# Altium schematic symbol library pinghengche.SCHLIB: 39 symbols
Pins are listed as number, name and electrical type; pins without a type are passive.

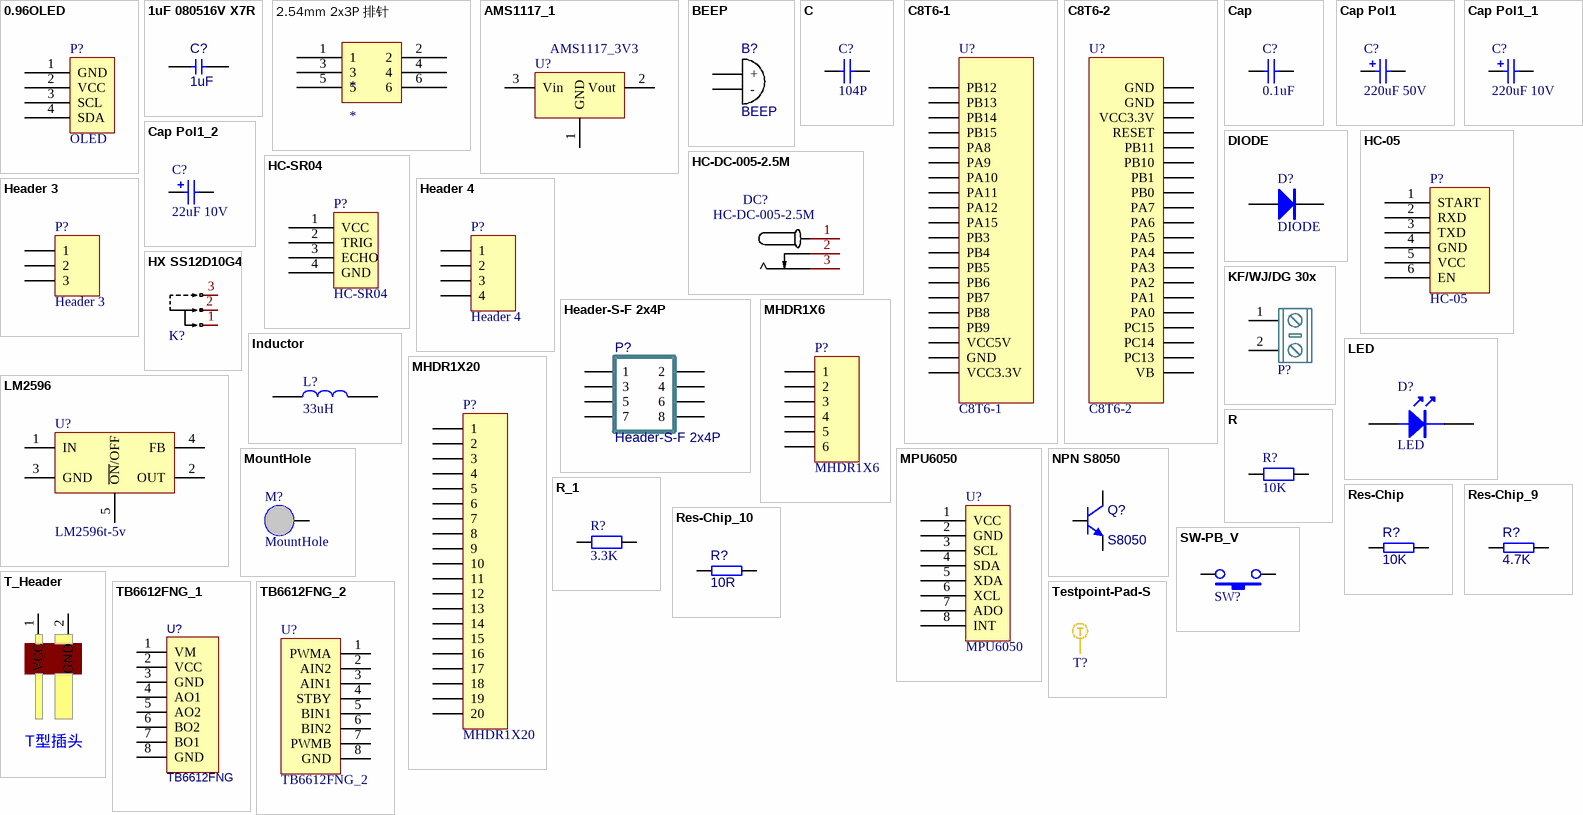
[diagram p0: symbols 0.96OLED to Testpoint-Pad-S]

## 0.96OLED
designator P?, comment OLED
0.96寸OLED屏，GND开头
footprint OLED4p (排母，4脚)
pins: 1 GND, 2 VCC, 3 SCL, 4 SDA

## 1uF 080516V X7R
designator C?  value 1uF
贴片电容0805; Revision: V1.0
footprint C0805
pins: 1, 2

## 2.54mm 2x3P 排针
designator *
footprint HDR-TH_6P-P2.54-V-M-R2-C3-S2.54
pins: 1, 2, 3, 4, 5, 6

## AMS1117_1
designator U?, comment AMS1117_3V3
3.3V电压转换器AMS1117
footprint SOT-223
pins: 1 GND, 2 Vout, 3 Vin

## BEEP
designator B?
蜂鸣器
footprint BEEP 9x5.5mm
footprint BEEP 9x5.5mm
pins: 1 +, 2 -

## C
designator C?, comment 104P
0.1uf 贴片电容/MLCC电容; BOM名称: 无极性贴片电容; 联系卖家，免费查找封装: 唯一出售店铺网址https://shop463601444.taobao.com
footprint CAPC1608[0603]S-L
pins: 1, 2

## C8T6-1
designator U?
stm32f103c8t6扩展接口
footprint HDR2.54-M-LI-20P (排母，20脚)
pins: 1 PB12, 2 PB13, 3 PB14, 4 PB15, 5 PA8, 6 PA9, 7 PA10, 8 PA11, 9 PA12, 10 PA15, 11 PB3, 12 PB4, 13 PB5, 14 PB6, 15 PB7, 16 PB8, 17 PB9, 18 VCC5V, 19 GND, 20 VCC3.3V

## C8T6-2
designator U?
stm32f103c8t6扩展接口
footprint HDR2.54-M-LI-20P (排母，20脚)
pins: 1 GND, 2 GND, 3 VCC3.3V, 4 RESET, 5 PB11, 6 PB10, 7 PB1, 8 PB0, 9 PA7, 10 PA6, 11 PA5, 12 PA4, 13 PA3, 14 PA2, 15 PA1, 16 PA0, 17 PC15, 18 PC14, 19 PC13, 20 VB

## Cap
designator C?  value 0.1uF  (hidden comment: Cap)
Capacitor; Published: 8-Jun-2000; LatestRevisionDate: 17-Jul-2002; LatestRevisionNote: Re-released for DXP Platform.; PackageReference: RAD-0.3; Publisher: Altium Limited
simulation model CAP (Capacitor)
signal-integrity model Cap
footprint CAPC1608[0603]S-L
pins: 1, 2

## Cap Pol1
designator C?  value 220uF 50V  (hidden comment: Cap Pol1)
Polarized Capacitor (Radial); Published: 8-Jun-2000; LatestRevisionDate: 17-Jul-2002; LatestRevisionNote: Re-released for DXP Platform.; PackageReference: RB7.6-15; Publisher: Altium Limited
simulation model CAP (Capacitor)
signal-integrity model Cap Pol
footprint CAP-SMD_BD10.0-L10.3-W10.3-LS11.3-FD
pins: 1, 2
1 alternate drawing of the same symbol

## Cap Pol1_1
designator C?, comment value 220uF 10V  (hidden comment: Cap Pol1)
Polarized Capacitor (Radial); Published: 8-Jun-2000; LatestRevisionDate: 17-Jul-2002; LatestRevisionNote: Re-released for DXP Platform.; PackageReference: RB7.6-15; Publisher: Altium Limited
simulation model CAP (Capacitor)
signal-integrity model Cap Pol
footprint 7343 (钽电容)
pins: 1, 2
1 alternate drawing of the same symbol

## Cap Pol1_2
designator C?, comment value 22uF 10V  (hidden comment: Cap Pol1)
Polarized Capacitor (Radial); Published: 8-Jun-2000; LatestRevisionDate: 17-Jul-2002; LatestRevisionNote: Re-released for DXP Platform.; PackageReference: RB7.6-15; Publisher: Altium Limited
simulation model CAP (Capacitor)
signal-integrity model Cap Pol
footprint C3528 (B型)
pins: 1, 2
1 alternate drawing of the same symbol

## DIODE
designator D?
footprint SS34
pins: 1, 2

## HC-05
designator P?
HC-05 这里只用到了其4个管脚
footprint HDR-TH_6P-P2.54-V-F
pins: 1 START, 2 RXD, 3 TXD, 4 GND, 5 VCC, 6 EN

## HC-DC-005-2.5M
designator DC?
Manufacturer: HCTL(华灿天禄); 3DModel: DC-IN-TH_KH-DC-005-2.5; Add into BOM: yes; Symbol: HC-DC-005-2.5M; Device: HC-DC-005-2.5M; link: https://atta.szlcsc.com/upload/public/pdf/source/20210716/C2847170_7F0110A0BEDEE81C68B76DF87AC8DA16.pdf; Supplier: LCSC; Supplier Part: C3010535; Manufacturer Part: HC-DC-005-2.5M; JLCPCB Part Class: ExtendedPart; Convert to PCB: yes; Origin Footprint: DC-IN-TH_KH-DC-005-2.5; Name: HC-DC-005-2.5M
footprint DC-005 (DC母座5.5mm)
pins: 1, 2, 3

## HC-SR04
designator P?
超声波HC-SR04
footprint HC-SR04 (超声波模块)
pins: 1 VCC, 2 TRIG, 3 ECHO, 4 GND

## Header 3
designator P?
Header, 3-Pin; LatestRevisionDate: 17-Jul-2002; LatestRevisionNote: Re-released for DXP Platform.; Publisher: Altium Limited
signal-integrity model Connector
footprint HDR-TH_3P-P2.54-V-M-1
pins: 1, 2, 3

## Header 4
designator P?
Header, 4-Pin; LatestRevisionDate: 17-Jul-2002; LatestRevisionNote: Re-released for DXP Platform.; Publisher: Altium Limited
signal-integrity model Connector
footprint HDR-1X4_H (弯脚排针，4脚)
footprint HDR1X4-M
pins: 1, 2, 3, 4

## Header-S-F 2x4P
designator P?
2x4pin, 贴片, 双排座; Revision: V1.0; Value: Header-S-F 2x4P
footprint HDR2.54-LI-2x4P (双排排针，4x2脚)
pins: 1, 2, 3, 4, 5, 6, 7, 8

## HX SS12D10G4
designator K?  (value not drawn)
单刀三档开关; Manufacturer: hanxia(韩下); Add into BOM: yes; Name: HX SS12D10G4; Symbol: HX SS12D10G4; Device: HX SS12D10G4; LCSC Part Name: 拨动开关 立式两档拨动,单排3脚插件,12.7x6.7x6.4,黑柄4mm; Supplier Part: C5149841; Manufacturer Part: HX SS12D10G4; Supplier Footprint: 插件; JLCPCB Part Class: Extended Part; Datasheet: https://atta.szlcsc.com/upload/public/pdf/source/20220907/2020D7183ED16DD6E2B9F5A13FB144CF.pdf; Supplier: LCSC; Convert to PCB: yes
footprint SW-TH_SHOU-HAN_SS12D10G4
3D model SW-TH_SHOU-HAN_SS12D10G4
footprint SS12D10
pins: 1, 2, 3

## Inductor
designator L?, comment 33uH
footprint 0630 TPC 7*7*3
pins: 1, 2

## KF/WJ/DG 30x
designator P?, comment KF/WJ/DG 30x connecter  (value not drawn)
接线端子 2Pin
footprint KF/WJ/DG 301-2p-5.0mm (2P 5.08mm间距 接线端子)
pins: 1, 2

## LED
designator D?
0805
footprint LED 0805G (绿色0805LED)
pins: 1, 2

## LM2596
designator U?, comment LM2596t-5v
Simple Switcher 3A Step Down Voltage Regulator; Note: Tab is connected to GND; Published: 15-Apr-2002; Datasheet: Latest Revision: Jun-1999; Package Reference: TS5B; Publisher: Altium Limited
footprint LM2596-5V
pins: 1 IN (power), 2 OUT (power), 3 GND (power), 4 FB, 5 ~{ON}/OFF

## MHDR1X6
designator P?
Header, 6-Pin; LatestRevisionDate: 17-Jul-2002; LatestRevisionNote: Re-released for DXP Platform.; Publisher: Altium Limited
footprint XH2.54-WI-6P (接插件，6P)
pins: 1, 2, 3, 4, 5, 6

## MHDR1X20
designator P?
Header, 20-Pin; LatestRevisionDate: 17-Jul-2002; LatestRevisionNote: Re-released for DXP Platform.; Publisher: Altium Limited
footprint HDR2.54-LI-20P (排针，20脚)
pins: 1, 2, 3, 4, 5, 6, 7, 8, 9, 10, 11, 12, 13, 14, 15, 16, 17, 18, 19, 20

## MountHole
designator M?  (no BOM)
固定孔
footprint M3-MountHole
pins: 1

## MPU6050
designator U?
MPU6050陀螺仪
footprint HDR2.54-M-LI-8P (排母，8脚)
pins: 1 VCC, 2 GND, 3 SCL, 4 SDA, 5 XDA, 6 XCL, 7 ADO, 8 INT

## NPN S8050
designator Q?, comment S8050
Discrete NPN Bipolar Transistor; Published: 8-Jun-2000; Revision: July-2002: Re-released for DXP Platform.; Publisher: Altium Limited; Price(RMB): 0.000; PartNumber: S8050
simulation model SS8050
footprint SOT-23 (SOT23, 3-Leads, Body 2.90x2.40mm, Pitch 0.95mm, IPC Medium Density)
pins: 1 B, 2 E, 3 C

## R
designator R?, comment 10K
贴片电阻; 联系卖家，免费查找封装: 唯一出售店铺网址https://shop463601444.taobao.com; BOM名称: 贴片电阻
footprint RESC1608[0603]S-L
pins: 1, 2

## R_1
designator R?, comment 3.3K
贴片电阻; 联系卖家，免费查找封装: 唯一出售店铺网址https://shop463601444.taobao.com; BOM名称: 贴片电阻
footprint RESC1608[0603]S-L
pins: 1, 2

## Res-Chip
designator R?, comment value 10K  (hidden comment: 10K ±1%)
贴片电阻; Power: 1/8W; Revision: V1.0; Tolerance: ±1%
footprint RESC1608[0603]S-L
pins: 1, 2

## Res-Chip_9
designator R?, comment value 4.7K  (hidden comment: 4.7K ±1%)
贴片电阻; Power: 1/8W; Revision: V1.0; Tolerance: ±1%
footprint RESC1608[0603]S-L
pins: 1, 2

## Res-Chip_10
designator R?, comment value 10R  (hidden comment: 10R ±1%)
贴片电阻; Published: 8-Jun-2000; Revision: July-2002: Re-released for DXP Platform.; Tolerance: ±1%
footprint R0603 (1/10W)
pins: 1, 2

## SW-PB_V
designator SW?  (value not drawn)
SWITCH
footprint TSW SMD-3*6*2.5 (3*6*2.5mm)
pins: 1, 2

## T_Header
designator DCIN?, comment T型插头
footprint Wired T-Header ThroughHole
pins: 1 VCC, 2 GND

## TB6612FNG_1
designator U?, comment TB6612FNG
电机驱动; 联系卖家 免费查找封装: 唯一出售店铺网址https://shop463601444.taobao.com
footprint HDR2.54-M-LI-8P (排母，8脚)
pins: 1 VM, 2 VCC, 3 GND, 4 AO1, 5 AO2, 6 BO2, 7 BO1, 8 GND

## TB6612FNG_2
designator U?
footprint HDR2.54-M-LI-8P (排母，8脚)
pins: 1 PWMA, 2 AIN2, 3 AIN1, 4 STBY, 5 BIN1, 6 BIN2, 7 PWMB, 8 GND

## Testpoint-Pad-S
designator T?, comment Testpoint-Pad  (value not drawn)  (no BOM)
测试点，就是个焊盘
footprint testpoint-pad-1mm
pins: 1 T